# Altium footprint library TSOT26.PcbLib: 1 footprints
Each footprint in its own frame and in the unit in brackets; x right, y up, seen from the top. Pads: shape width x height; smd on the part's side, far side on the other; paste and mask are expansions set on the pad; w line width, h text height; cw(c..) or ccw(c..) is an arc to the next point about the centre after c.
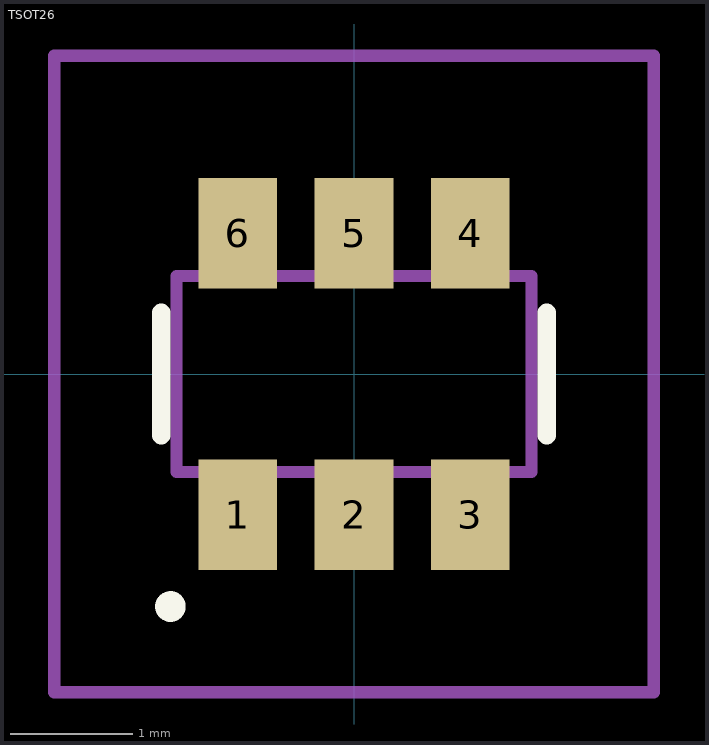
[diagram p0: the footprint, top view; thin cyan lines are the x and y axes]

## TSOT26 [mm]
pads (6):
  rect 0.645x0.9 smd: 1(-0.95,-1.15) 2(0,-1.15) 3(0.95,-1.15) 4(0.95,1.15) 5(0,1.15) 6(-0.95,1.15)
Top Overlay:
  circle w0.15: c-1.5,-1.9 r0.05
  lines w0.15: -1.575,-0.5 -1.575,0.5 ; 1.575,-0.5 1.575,0.5
Mechanical 13:
  lines w0.1: -1.45,-0.8 1.45,-0.8 1.45,0.8 -1.45,0.8 -1.45,-0.8
Mechanical 15:
  lines w0.1: -2.45,-2.6 2.45,-2.6 2.45,2.6 -2.45,2.6 -2.45,-2.6
3D body "AP63200QWU-7.stp": height 1.01, standoff 0.01, extent -1.5,-1.4 1.5,1.4